# Altium footprint library F83520200051.PcbLib: 3 footprints
Each footprint in its own frame and in the unit in brackets; x right, y up, seen from the top. Pads: shape width x height; smd on the part's side, far side on the other; paste and mask are expansions set on the pad; w line width, h text height; cw(c..) or ccw(c..) is an arc to the next point about the centre after c.
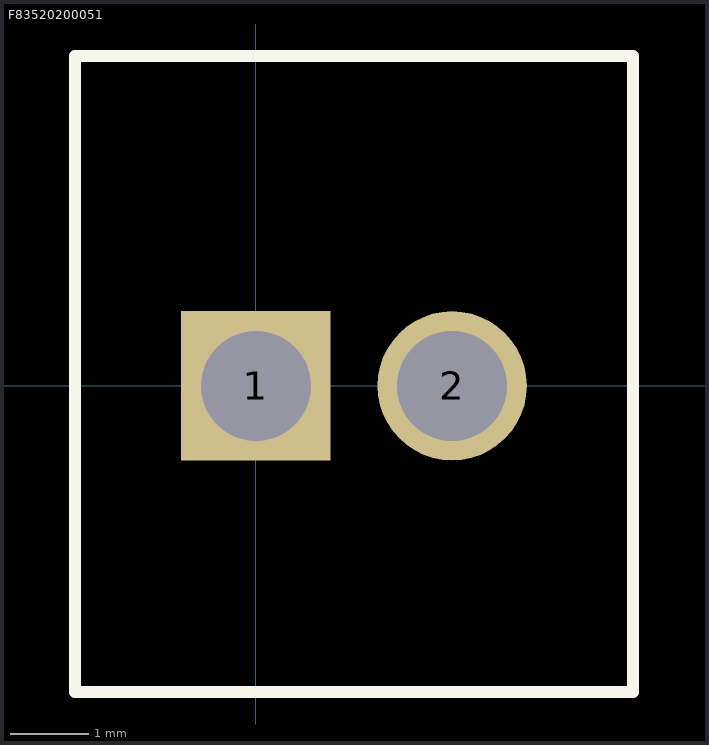
[diagram p0: the footprints below, top view; thin cyan lines are the x and y axes]

## F83520200051 [mm] "Pitch 2.5mm 2Pin Voltage rating 300V Current rating 10A  Withstanding Voltage 2500VAC"
height 10.1
pads (2):
  rect 1.9x1.9 hole 1.4: 1(0,0)
  round 1.9 hole 1.4: 2(2.5,0)
Top Overlay:
  lines w0.152: -2.3,-3.9 -2.3,4.2 4.8,4.2 4.8,-3.9 -2.3,-3.9
Mechanical 13:
  lines w0.152: -2.3,-3.9 4.8,-3.9 4.8,4.2 -2.3,4.2 -2.3,-3.9
Mechanical 15:
  lines w0.152: -2.3,-3.9 4.8,-3.9 4.8,4.2 -2.3,4.2 -2.3,-3.9
3D body: height 10.11, standoff -3.49, extent -2.3,-3.9 4.7,4.2

## PCBComponent_1 [mm]

## PCBComponent_1 - duplicate [mm]